# EAGLE library part TS482 (library pimoroni-ics)
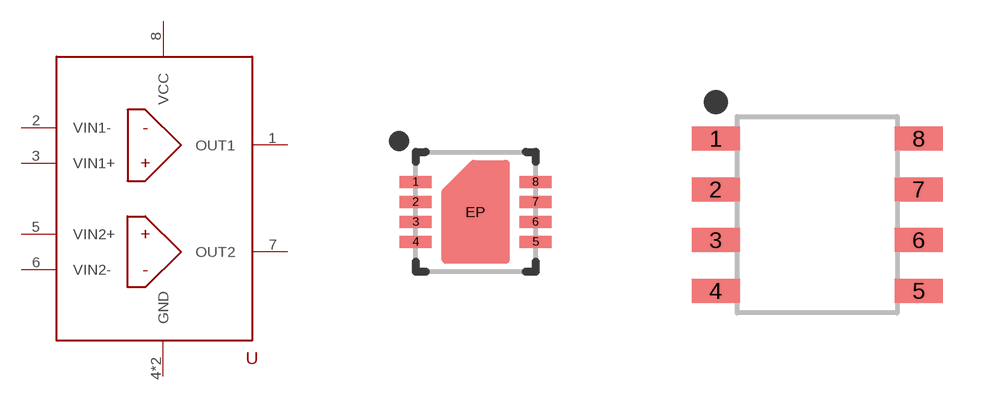
[diagram p112: symbol with the pads of DFN-8-3X3-0.5MM; footprints DFN-8-3X3-0.5MM, SOIC8-150MIL]

Designator prefix -

## TS482TS482IQT  [DFN-8-3X3-0.5MM]
1  OUT1
2  VIN1-
3  VIN1+
4  GND
5  VIN2+
6  VIN2-
7  OUT2
8  VCC
EP  GND

## TS482TS482ID  [SOIC8-150MIL]
1  OUT1
2  VIN1-
3  VIN1+
4  GND
5  VIN2+
6  VIN2-
7  OUT2
8  VCC

## Footprint DFN-8-3X3-0.5MM (pad centres in mm)
smd 0.8 x 0.3: 1 -1.5,0.75; 2 -1.5,0.25; 3 -1.5,-0.25; 4 -1.5,-0.75; 5 1.5,-0.75; 6 1.5,-0.25; 7 1.5,0.25; 8 1.5,0.75
smd 0.4 x 0.4: EP 0,0

## Footprint SOIC8-150MIL (pad centres in mm)
smd 1.2 x 0.6: 1 -2.54,1.905; 2 -2.54,0.635; 3 -2.54,-0.635; 4 -2.54,-1.905; 5 2.54,-1.905; 6 2.54,-0.635; 7 2.54,0.635; 8 2.54,1.905